# EAGLE library part DEVKITC-V1 (library UNIT_Biblioteca_Modulos)
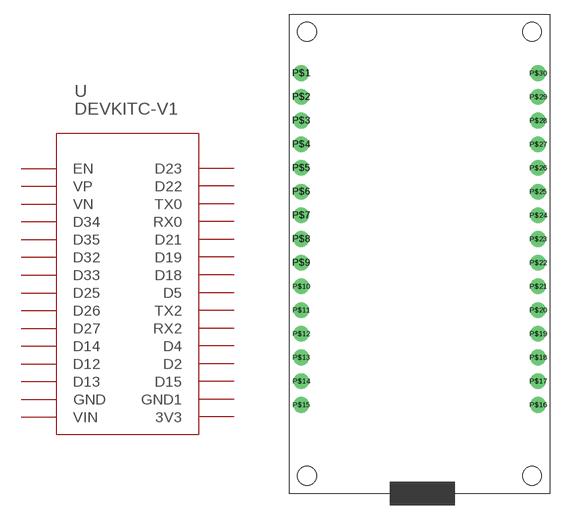
[diagram p11: symbol with the pads of DEVKITC-V1; footprint DEVKITC-V1]

Designator prefix -

## DEVKITC-V1  [DEVKITC-V1]
P$1  EN
P$2  VP
P$3  VN
P$4  D34
P$5  D35
P$6  D32
P$7  D33
P$8  D25
P$9  D26
P$10  D27
P$11  D14
P$12  D12
P$13  D13
P$14  GND
P$15  VIN
P$16  3V3
P$17  GND1
P$18  D15
P$19  D2
P$20  D4
P$21  RX2
P$22  TX2
P$23  D5
P$24  D18
P$25  D19
P$26  D21
P$27  RX0
P$28  TX0
P$29  D22
P$30  D23

## Footprint DEVKITC-V1 (pad centres in mm)
drill 1 pad 1.676: P$1 0,0; P$2 0,-2.54; P$3 0,-5.08; P$4 0,-7.62; P$5 0,-10.16; P$6 0,-12.7; P$7 0,-15.24; P$8 0,-17.78; P$9 0,-20.32; P$10 0,-22.86; P$11 0,-25.4; P$12 0,-27.94; P$13 0,-30.48; P$14 0,-33.02; P$15 0,-35.56; P$16 25.4,-35.56; P$17 25.4,-33.02; P$18 25.4,-30.48; P$19 25.4,-27.94; P$20 25.4,-25.4; P$21 25.4,-22.86; P$22 25.4,-20.32; P$23 25.4,-17.78; P$24 25.4,-15.24; P$25 25.4,-12.7; P$26 25.4,-10.16; P$27 25.4,-7.62; P$28 25.4,-5.08; P$29 25.4,-2.54; P$30 25.4,0